# Altium integrated library JST-CONNECTORS.IntLib: 3 symbols
Pins are listed as number, name and electrical type; pins without a type are passive.

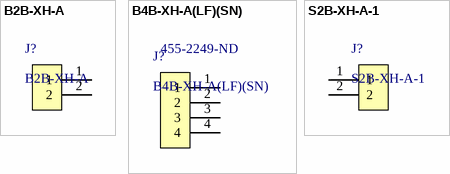
[diagram p0: symbols B2B-XH-A to S2B-XH-A-1]

## B2B-XH-A
designator J?
Header B2B-XH-A, 2.50mm, 2-contacts, top entry, THT /1000/box; Manufacturer: JST; Contact Resistance: 10mR; Current Rating: 3A; Insulation Resistance: 1GR; Supplier: Digi-Key; Supplier Part Number: 455-B2B-XH-A-ND; Manufacturer Part Number: B2B-XH-A; RoHS: Yes; Category: FFC / FPC; Stock: 954504; Pricing: 1=0,15000, 10=0,12100, 100=0,08890, 500=0,07360, 1000=0,06441, 5000=0,05521, 10000=0,05367 (USD); Pins: 2; Contact Material: Bronze,Tin; Housing Material: Nylon; Series: XH; Orientation: Straight; ComponentLink1URL: https://www.distrelec.biz/Web/Downloads/_t/ds/xh-series_eng_tds.pdf?mime=application%2Fpdf&src-supplier=Distrelec; ComponentLink1Description: https://www.distrelec.biz/Web/Downloads/_t/ds/xh-series_eng_tds.pdf?mime=application%2Fpdf&src-supplier=Distrelec
footprint JST_B2B-XH-A
pins: 1, 2

## B4B-XH-A(LF)(SN)
designator J?  Supplier Part Number 1: 455-2249-ND
间距2.5mm 4pin 直插 母座; Manufacturer: JST; Contact Resistance: 20mR; Current Rating: 3A; Voltage Rating (AC): 250V; Number of Positions: 4; Insulation Resistance: 1GR; Connector Type: Male Pin; Gender: Male; Wire/Cable Gauge: 22AWG; Pitch: 2.5mm; Supplier 1: Digi-Key; Manufacturer Part Number: B4B-XH-A(LF)(SN); RoHS: Yes; Category: FFC / FPC; Stock 1: 150367; Pricing 1: 1=0,21000, 10=0,18000, 100=0,13820, 500=0,11690, 1000=0,09565, 5000=0,08502, 10000=0,07705 (USD); Mount: Through Hole; Contact Plating: Tin,Copper,Lead; Contact Material: Brass; Color: Natural; Housing Color: White; Housing Material: Polyamide; Material: Polyamide; Min Operating Temperature: -25°C; Max Operating Temperature: 85°C; Number of Rows: 1; Max Current Rating: 3A; Package Quantity: 500; Packaging: Bulk; Voltage Rating: 250V; Termination: Press-Fit; Max Voltage Rating (AC): 250V; Max Voltage Rating (DC): 250V; Number of Contacts: 4; Orientation: Straight; Series: XH; Contact Type: Male Pin; Length: 12.4mm; Lead Pitch: 2.5mm; Depth: 5.75mm; REACH SVHC: No SVHC; Lead Free: Lead Free; ComponentLink1URL: https://datasheet.ciiva.com/26924/getdatasheetpartid-640571-26924035.pdf?src-supplier=Verical; ComponentLink1Description: https://datasheet.ciiva.com/26924/getdatasheetpartid-640571-26924035.pdf?src-supplier=Verical; ComponentLink2URL: https://datasheet.ciiva.com/16203/b4b-xh-alfsn-16203642.pdf?src-supplier=Future+Electronics; ComponentLink2Description: https://datasheet.ciiva.com/16203/b4b-xh-alfsn-16203642.pdf?src-supplier=Future+Electronics; ComponentLink3URL: https://datasheet.ciiva.com/26894/getdatasheetpartid-455616-26894787.pdf?src-supplier=Verical; ComponentLink3Description: https://datasheet.ciiva.com/26894/getdatasheetpartid-455616-26894787.pdf?src-supplier=Verical; ComponentLink4URL: https://datasheet.ciiva.com/726/exh-726404.pdf?src-supplier=Digi-Key; ComponentLink4Description: https://datasheet.ciiva.com/726/exh-726404.pdf?src-supplier=Digi-Key
footprint JST_B4B-XH-A(LF)(SN)
pins: 1, 2, 3, 4

## S2B-XH-A-1
designator J?
Header S2B-XH-A-1, 2.50mm, 2-contacts, side entry, THT /1000/box; Manufacturer: JST; Supplier: Digikey; Supplier Part Number: 455-S2B-XH-A-1-ND; Manufacturer Part Number: S2B-XH-A-1; RoHS: No; Stock: 51027; Pricing: 1=0,19, 10=0,165, 100=0,1266, 1000=0,08767, 5000=0,07793, 10000=0,07063 (USD); Orientation: Right Angle
footprint JST_S2B-XH-A-1
pins: 1, 2